# Altium footprint library BQ24210DQCR.PcbLib: 1 footprints
Each footprint in its own frame and in the unit in brackets; x right, y up, seen from the top. Pads: shape width x height; smd on the part's side, far side on the other; paste and mask are expansions set on the pad; w line width, h text height; cw(c..) or ccw(c..) is an arc to the next point about the centre after c.
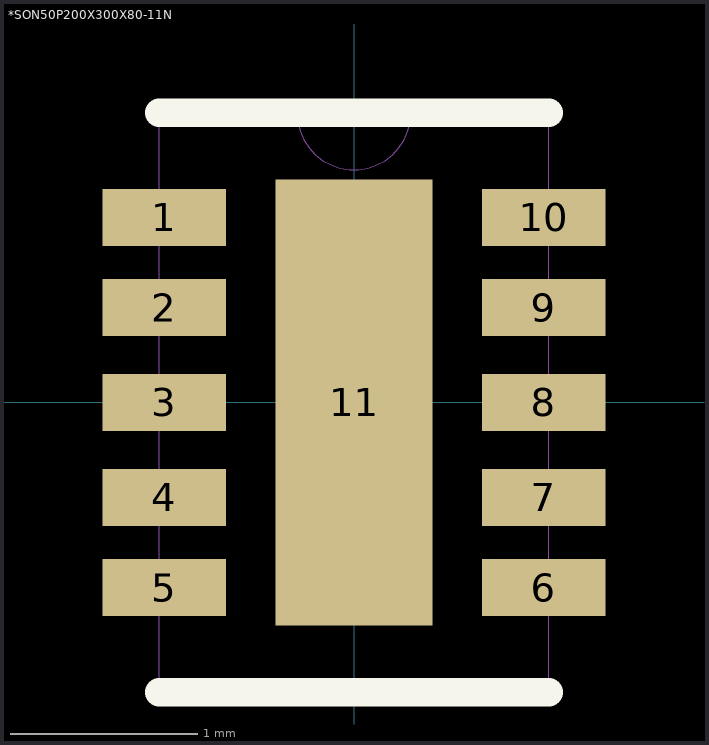
[diagram p0: the footprint, top view; thin cyan lines are the x and y axes]

## *SON50P200X300X80-11N [mil]
pads (11):
  rect 26x12 smd: 1(-40,39) 2(-40,20) 3(-40,0) 4(-40,-20) 5(-40,-39) 6(40,-39) 7(40,-20) 8(40,0) 9(40,20) 10(40,39)
  rect 33x94 smd: 11(0,0)
Top Overlay:
  lines w6: -41,-61 41,-61 ; -41,61 41,61
Mechanical 15:
  lines w0: -41,-61 -41,61 ; -41,-61 41,-61 ; -41,-61 -41,61 ; -41,-61 41,-61 ; -41,61 -12,61 ; -41,61 -12,61 ; -12,61 ccw(c0,61) 12,61 ; -12,61 ccw(c0,61) 12,61 ; -12,61 12,61 ; -12,61 12,61 ; 12,61 41,61 ; 12,61 41,61 ; 41,-61 41,61 ; 41,-61 41,61